# Altium schematic symbol library BM06B-SRSS-TB_LF__SN_.SchLib: 1 symbol
Pins are listed as number, name and electrical type; pins without a type are passive.

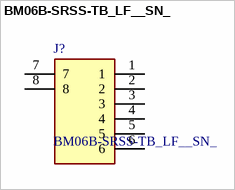
[diagram p0: symbol BM06B-SRSS-TB_LF__SN_]

## BM06B-SRSS-TB_LF__SN_
designator J?
Wire To Board / Wire To Wire Connector RoHS; Manufacturer_Name: JST (JAPAN SOLDERLESS TERMINALS); Manufacturer_Part_Number: BM06B-SRSS-TB(LF)(SN); Geometry.Height: 4.25mm; Mouser Part Number: N/A; Mouser Price/Stock: https://www.mouser.co.uk/ProductDetail/JST-Commercial/BM06B-SRSS-TBLFSN?qs=IKkN%2F947nfAcbKIXx%2F1kIg%3D%3D; Datasheet Link: http://www.jst-mfg.com/product/pdf/eng/eSR.pdf
footprint BM06BSRSSTBLFSN
pins: 1, 2, 3, 4, 5, 6, 7, 8